# EAGLE library part BSD235NH6327XT (library SamacSys_Parts)
Infineon BSD235NH6327XT Dual N-channel MOSFET Transistor, 0.95 A, 20 V, 6-Pin SOT-363 Source: Datasheet <https://www.mouser.co.uk/datasheet/2/196/BSD235N_Rev2 5-1225272.pdf>
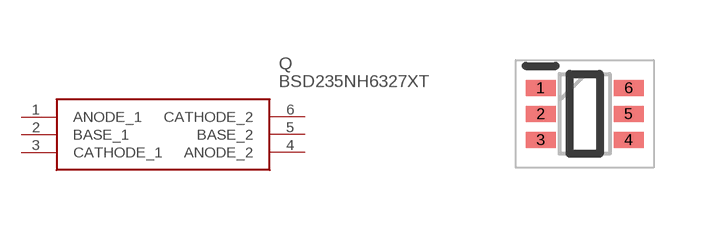
[diagram p1: symbol with the pads of SOT65P210X100-6N; footprint SOT65P210X100-6N]

Designator prefix Q

## BSD235NH6327XT (DESCRIPTION: Infineon BSD235NH6327XT Dual N-channel MOSFET Transistor, 0.95 A, 20 V, 6-Pin SOT-363; HEIGHT: 1mm; MANUFACTURER_NAME: Infineon; MANUFACTURER_PART_NUMBER: BSD235NH6327XT; MOUSER_PART_NUMBER: 726-BSD235NH6327XTSA; MOUSER_PRICE-STOCK: https://www.mouser.co.uk/ProductDetail/Infineon-Technologies/BSD235NH6327XT?qs=zO0nedAqnNLj5BYSlH7kJg%3D%3D)  [SOT65P210X100-6N]
1  ANODE_1
2  BASE_1
3  CATHODE_1
4  ANODE_2
5  BASE_2
6  CATHODE_2

## Footprint SOT65P210X100-6N (pad centres in mm)
SOT-363-1
smd 0.75 x 0.4: 1 -1.1,0.65; 2 -1.1,0; 3 -1.1,-0.65; 4 1.1,-0.65; 5 1.1,0; 6 1.1,0.65